# EAGLE library part USB-BATTERY_LOAD (library Airbeam)
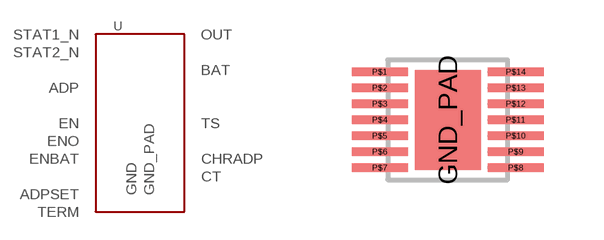
[diagram p6: symbol with the pads of TDFN33-14; footprint TDFN33-14]

Designator prefix -

## USB-BATTERY_LOAD (PARTNO: AAT3672IWO-4.2-1-T1)  [TDFN33-14]
GND_PAD  GND_PAD
P$1  ADPSET
P$2  ADP
P$3  STAT1_N
P$4  GND
P$5  STAT2_N
P$6  EN
P$7  ENO
P$8  ENBAT
P$9  CHRADP
P$10  TERM
P$11  TS
P$12  BAT
P$13  OUT
P$14  CT

## Footprint TDFN33-14 (pad centres in mm)
smd 1.65 x 2.5: GND_PAD 0,0
smd 1.4 x 0.22: P$1 -1.7,1.2; P$2 -1.7,0.8; P$3 -1.7,0.4; P$4 -1.7,0; P$5 -1.7,-0.4; P$6 -1.7,-0.8; P$7 -1.7,-1.2; P$8 1.7,-1.2; P$9 1.7,-0.8; P$10 1.7,-0.4; P$11 1.7,0; P$12 1.7,0.4; P$13 1.7,0.8; P$14 1.7,1.2